# EAGLE library part TSW-107-02-S-S (library con-samtec)
THROUGH-HOLE .025" SQ POST HEADER Source: Samtec TSW.pdf
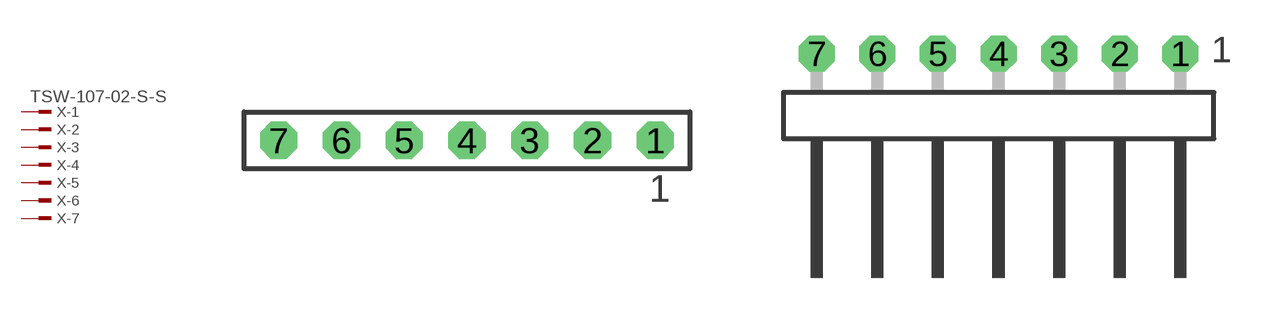
[diagram p239: symbol with the pads of TSW-107-02-S-S; footprints TSW-107-02-S-S, TSW-107-02-S-S-RA]

Designator prefix X; gates -1=MPINV -2=MPIN -3=MPIN -4=MPIN -5=MPIN -6=MPIN -7=MPIN

## TSW-107-02-S-S  [TSW-107-02-S-S]
1  -1:1  pas
2  -2:1  pas
3  -3:1  pas
4  -4:1  pas
5  -5:1  pas
6  -6:1  pas
7  -7:1  pas

## TSW-107-02-S-S-RA  [TSW-107-02-S-S-RA]
Pads as for TSW-107-02-S-S

## Footprint TSW-107-02-S-S (pad centres in mm)
THROUGH-HOLE .025" SQ POST HEADER Source: Samtec TSW.pdf
drill 1 pad 1.5 octagon: 1 7.62,0; 2 5.08,0; 3 2.54,0; 4 0,0; 5 -2.54,0; 6 -5.08,0; 7 -7.62,0

## Footprint TSW-107-02-S-S-RA (pad centres in mm)
THROUGH-HOLE .025" SQ POST HEADER Source: Samtec TSW.pdf
drill 1 pad 1.5 octagon: 1 7.62,1.524; 2 5.08,1.524; 3 2.54,1.524; 4 0,1.524; 5 -2.54,1.524; 6 -5.08,1.524; 7 -7.62,1.524